# EAGLE library part SN74LVC1G11 (library texas-instruments.2)
SINGLE 3-INPUT POSITIVE-AND GATE
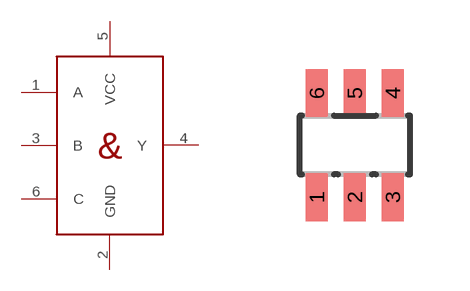
[diagram p6: symbol with the pads of SOT23-6; footprint SOT23-6]

Designator prefix IC

## SN74LVC1G11  [SOT23-6]
1  A
2  GND
3  B
4  Y
5  VCC
6  C

## Footprint SOT23-6 (pad centres in mm)
5-Lead Small Outline Transistor Package SOT-23 Source: http://www.analog.com/UploadedFiles/Data_Sheets/346131962AD8067_a.pdf
smd 0.55 x 1.2: 1 -0.95,-1.3; 2 0,-1.3; 3 0.95,-1.3; 4 0.95,1.3; 5 0,1.3; 6 -0.95,1.3